# EAGLE library part AD781 (library custom_parts)
700ns Sample-Hold
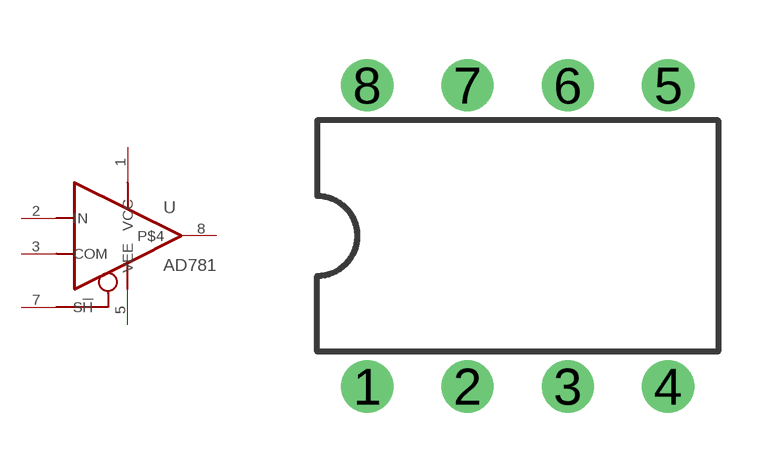
[diagram p14: symbol with the pads of DIL08; footprint DIL08]

Designator prefix -

## AD781  [DIL08]
1  VCC  pwr
2  IN  in
3  COM  in
5  VEE  pwr
7  S!H  in
8  P$4  out

## Footprint DIL08 (pad centres in mm)
Dual In Line Package
drill 0.813 pad 1.27: 1 -3.81,-3.81; 2 -1.27,-3.81; 3 1.27,-3.81; 4 3.81,-3.81; 5 3.81,3.81; 6 1.27,3.81; 7 -1.27,3.81; 8 -3.81,3.81